# Altium schematic symbol library MSD-10-C.SchLib: 1 symbol
Pins are listed as number, name and electrical type; pins without a type are passive.

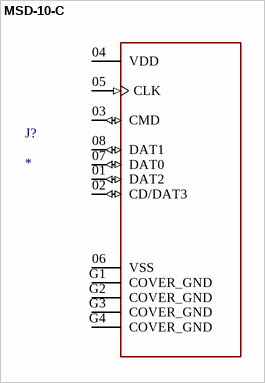
[diagram p0: symbol MSD-10-C]

## MSD-10-C
designator J?
å¾®åž‹ SD å¡è¿žæŽ¥å™¨ï¼Œ 8 ä½ï¼Œ è¿žæŽ¥å™¨ï¼Œ é“°é“¾å¼ï¼Œ è¡¨é¢è´´è£…ï¼Œ æ¿ä¸Šæ–¹ 1.9 mm é«˜åº¦ï¼Œ 15uâ€œé‡‘; MF: Same Sky; MP: MSD-10-C; SnapEDA_Link: https://www.snapeda.com/parts/MSD-10-C/Same+Sky/view-part/?ref=snap; Package: None; Value: *; Check_prices: https://www.snapeda.com/parts/MSD-10-C/Same+Sky/view-part/?ref=eda
footprint CUI_MSD-10-C
pins: 01 DAT2 (io), 02 CD/DAT3 (io), 03 CMD (io), 04 VDD (power), 05 CLK (in), 06 VSS (power), 07 DAT0 (io), 08 DAT1 (io), G1 COVER_GND (power), G2 COVER_GND (power), G3 COVER_GND (power), G4 COVER_GND (power)